# Altium integrated library LARS_409_SENSORS.Library.IntLib: 10 symbols
Pins are listed as number, name and electrical type; pins without a type are passive.

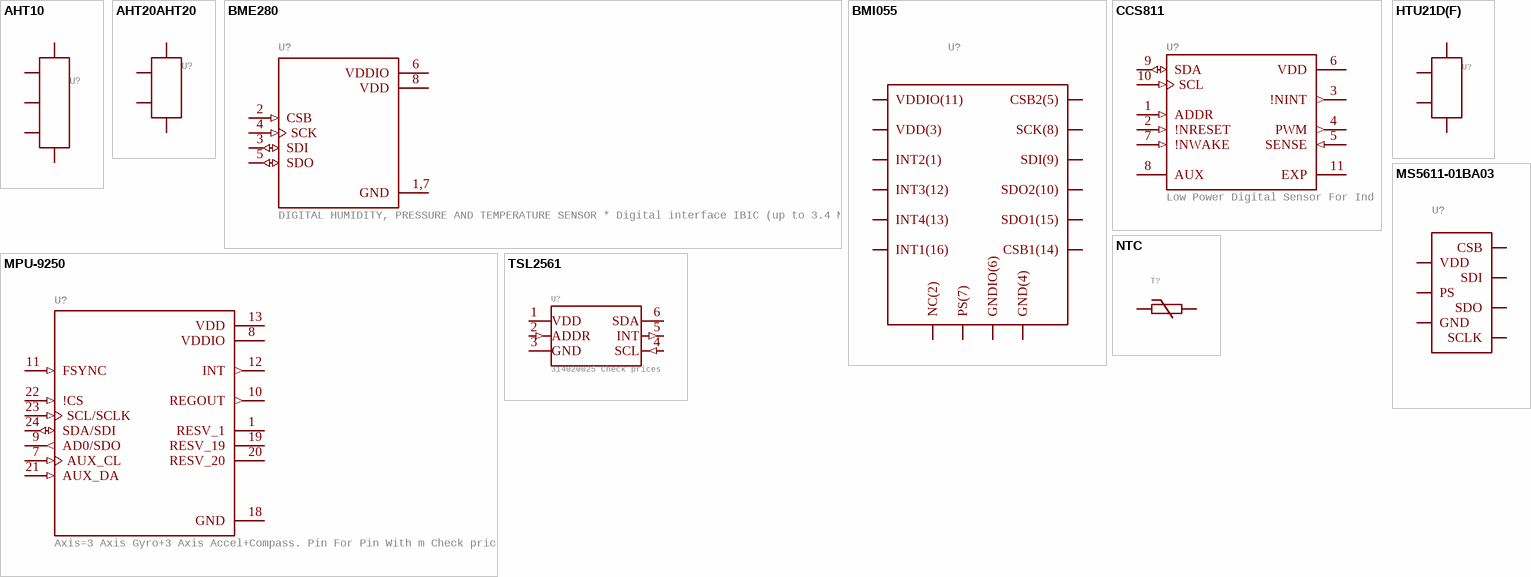
[diagram p0: symbols AHT10 to TSL2561]

## AHT10
designator U?
GateName_1: G$1; SymbolName_1: AHT10; LibraryName: LARS_409_SENSORS; DeviceSetName: AHT10; Package: AHT10
footprint AHT10
pins: ADR (io), GND (io), SCL (io), SDA (io), VDD (io)

## AHT20AHT20
designator U?
GateName_1: G$1; SymbolName_1: AHT20; DeviceName: AHT20; LibraryName: LARS_409_SENSORS; DeviceSetName: AHT20; Package: AHT20
footprint AHT20
pins: GND (io), SCL (io), SDA (io), VDD (io)

## BME280
designator U?, comment DIGITAL HUMIDITY, PRESSURE AND TEMPERATURE SENSOR * Digital interface IВІC (up to 3.4 MHz) and SPI (3 and 4 wire, up to 10 MHz)* Supply voltage VDD main supply voltage range: 1.71 V to 3.6 V*VDDIO interface voltage range: 1.2 V to 3.6 V Operating range -40вЂ¦+85 В°C, 0вЂ¦100 % rel. humidity, 300вЂ¦1100 hPa   The library has been designed by Richard Magdycz Check prices
GateName_1: G$1; SymbolName_1: BME280; DESCRIPTION: Humidity Temperature Sensor 0 ~ 100% RH I²C, SPI ±3% 1s Surface Mount; MF: Bosch; LibraryName: LARS_409_SENSORS; DeviceSetName: BME280; Package: 250X250X100; AVAILABILITY: Warning; DIGIKEY-PURCHASE-URL: https://snapeda.com/shop?store=DigiKey&id=49769; MOUSER-PURCHASE-URL: https://snapeda.com/shop?store=Mouser&id=49769; MP: BME280; PACKAGE: LGA-8 Bosch; PRICE: None
footprint 250X250X100
pins: 1,7 GND (power), 2 CSB (in), 3 SDI (io), 4 SCK (in), 5 SDO (io), 6 VDDIO (power), 8 VDD (power)

## BMI055
designator U?
GateName_1: G$1; SymbolName_1: BMI055; LibraryName: LARS_409_SENSORS; DeviceSetName: BMI055; Package: LGA16PIN
footprint LGA16PIN
pins: P$1 INT2(1) (io), P$2 NC(2) (io), P$3 VDD(3) (io), P$4 GND(4) (io), P$5 CSB2(5) (io), P$6 GNDIO(6) (io), P$7 PS(7) (io), P$8 SCK(8) (io), P$9 SDI(9) (io), P$10 SDO2(10) (io), P$11 VDDIO(11) (io), P$12 INT3(12) (io), P$13 INT4(13) (io), P$14 CSB1(14) (io), P$15 SDO1(15) (io), P$16 INT1(16) (io)

## CCS811
designator U?, comment Low Power Digital Sensor For Ind
GateName_1: G$1; SymbolName_1: CCS811; LibraryName: LARS_409_SENSORS; DeviceSetName: CCS811; Package: 270X400X110
footprint 270X400X110
pins: 1 ADDR (in), 2 !NRESET (in), 3 !NINT (out), 4 PWM (out), 5 SENSE (in), 6 VDD (power), 7 !NWAKE (in), 8 AUX, 9 SDA (io), 10 SCL (in), 11 EXP (power)

## HTU21D(F)
designator U?
GateName_1: G$1; SymbolName_1: HTU21D(F); LibraryName: LARS_409_SENSORS; DeviceSetName: HTU21D(F); Package: HTU21D(F)
footprint HTU21D(F)
pins: DATA (io), GND1,2 GND (io), SCK (io), VDD (io)

## MPU-9250
designator U?, comment Axis=3 Axis Gyro+3 Axis Accel+Compass. Pin For Pin With m Check prices
GateName_1: G$1; DESCRIPTION: Accelerometer, Gyroscope, Magnetometer, 9 Axis Sensor I²C, SPI Output; MF: TDK InvenSense; SymbolName_1: MPU-9250; LibraryName: LARS_409_SENSORS; DeviceSetName: MPU-9250; Package: QFN40P300X300X105-24N; AVAILABILITY: Bad; MP: MPU-9250; PACKAGE: TFQFN-24 TDK InvenSense; PRICE: None
footprint QFN40P300X300X105-24N
pins: 1 RESV_1, 7 AUX_CL (in), 8 VDDIO (power), 9 AD0/SDO (out), 10 REGOUT (out), 11 FSYNC (in), 12 INT (out), 13 VDD (power), 18 GND (power), 19 RESV_19, 20 RESV_20, 21 AUX_DA (in), 22 !CS (in), 23 SCL/SCLK (in), 24 SDA/SDI (io)

## MS5611-01BA03
designator U?
GateName_1: G$1; SymbolName_1: MS5611-01BA03; LibraryName: LARS_409_SENSORS; DeviceSetName: MS5611-01BA03; Package: QFN5X3
footprint QFN5X3
pins: P$1,8 CSB (io), P$2 GND (io), P$3 PS (io), P$4 VDD (io), P$5 SCLK (io), P$6 SDI (io), P$7 SDO (io)

## NTC
designator T?
GateName_1: G$1; SymbolName_1: TERM; DeviceSetName: NTC; LibraryName: LARS_409_SENSORS; Package: NTC
footprint NTC
pins: P$1 (io), P$2 (io)

## TSL2561
designator U?, comment 314020025 Check prices
GateName_1: G$1; SymbolName_1: TSL2561; LibraryName: LARS_409_SENSORS; DeviceSetName: TSL2561; Package: 1.55-3.8X2.6MM
footprint 1.55-3.8X2.6MM
pins: 1 VDD (power), 2 ADDR (in), 3 GND (power), 4 SCL (in), 5 INT (out), 6 SDA (io)